# EAGLE library part 418117270905 (library EAGLE-TACT_SWITCHES-rev17c)
2.54 mm compact THT with raised actuator WS-DITV, 5 Pole <http://katalog.we-online.de/media/images/v2/Family_WS_BS_4181172709xx_pf2.jpg> Details see: http://katalog.we-online.de/en/em/DITV_2_54_COMPACT_THT_WITH_RAISED_ACTUATOR 2015 (C) Wurth Elektronik
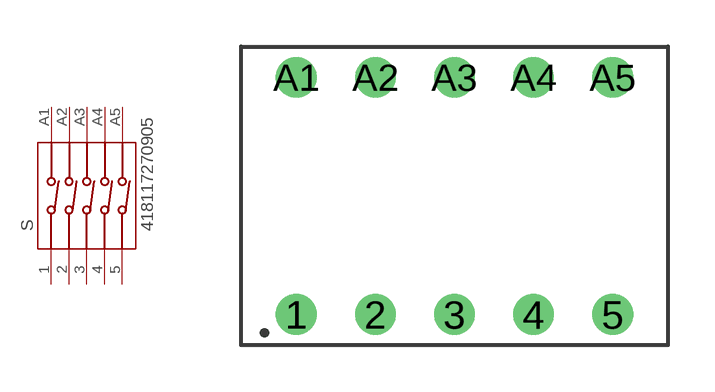
[diagram p35: symbol with the pads of 418117270905; footprint 418117270905]

Designator prefix S

## 418117270905  [418117270905]
1  1  pas
2  2  pas
3  3  pas
4  4  pas
5  5  pas
A1  A1  pas
A2  A2  pas
A3  A3  pas
A4  A4  pas
A5  A5  pas

## Footprint 418117270905 (pad centres in mm)
WS-BS 2.54 mm compact THT Dip Switch with raised actuator, 5 Pole
drill 0.8: 1 -5.08,-3.81; 2 -2.54,-3.81; 3 0,-3.81; 4 2.54,-3.81; 5 5.08,-3.81; A1 -5.08,3.81; A2 -2.54,3.81; A3 0,3.81; A4 2.54,3.81; A5 5.08,3.81